# Altium footprint library VioletofSun.PcbLib: 319 footprints (part 17 of 20)
Each footprint in its own frame and in the unit in brackets; x right, y up, seen from the top. Pads: shape width x height; smd on the part's side, far side on the other; paste and mask are expansions set on the pad; w line width, h text height; cw(c..) or ccw(c..) is an arc to the next point about the centre after c.
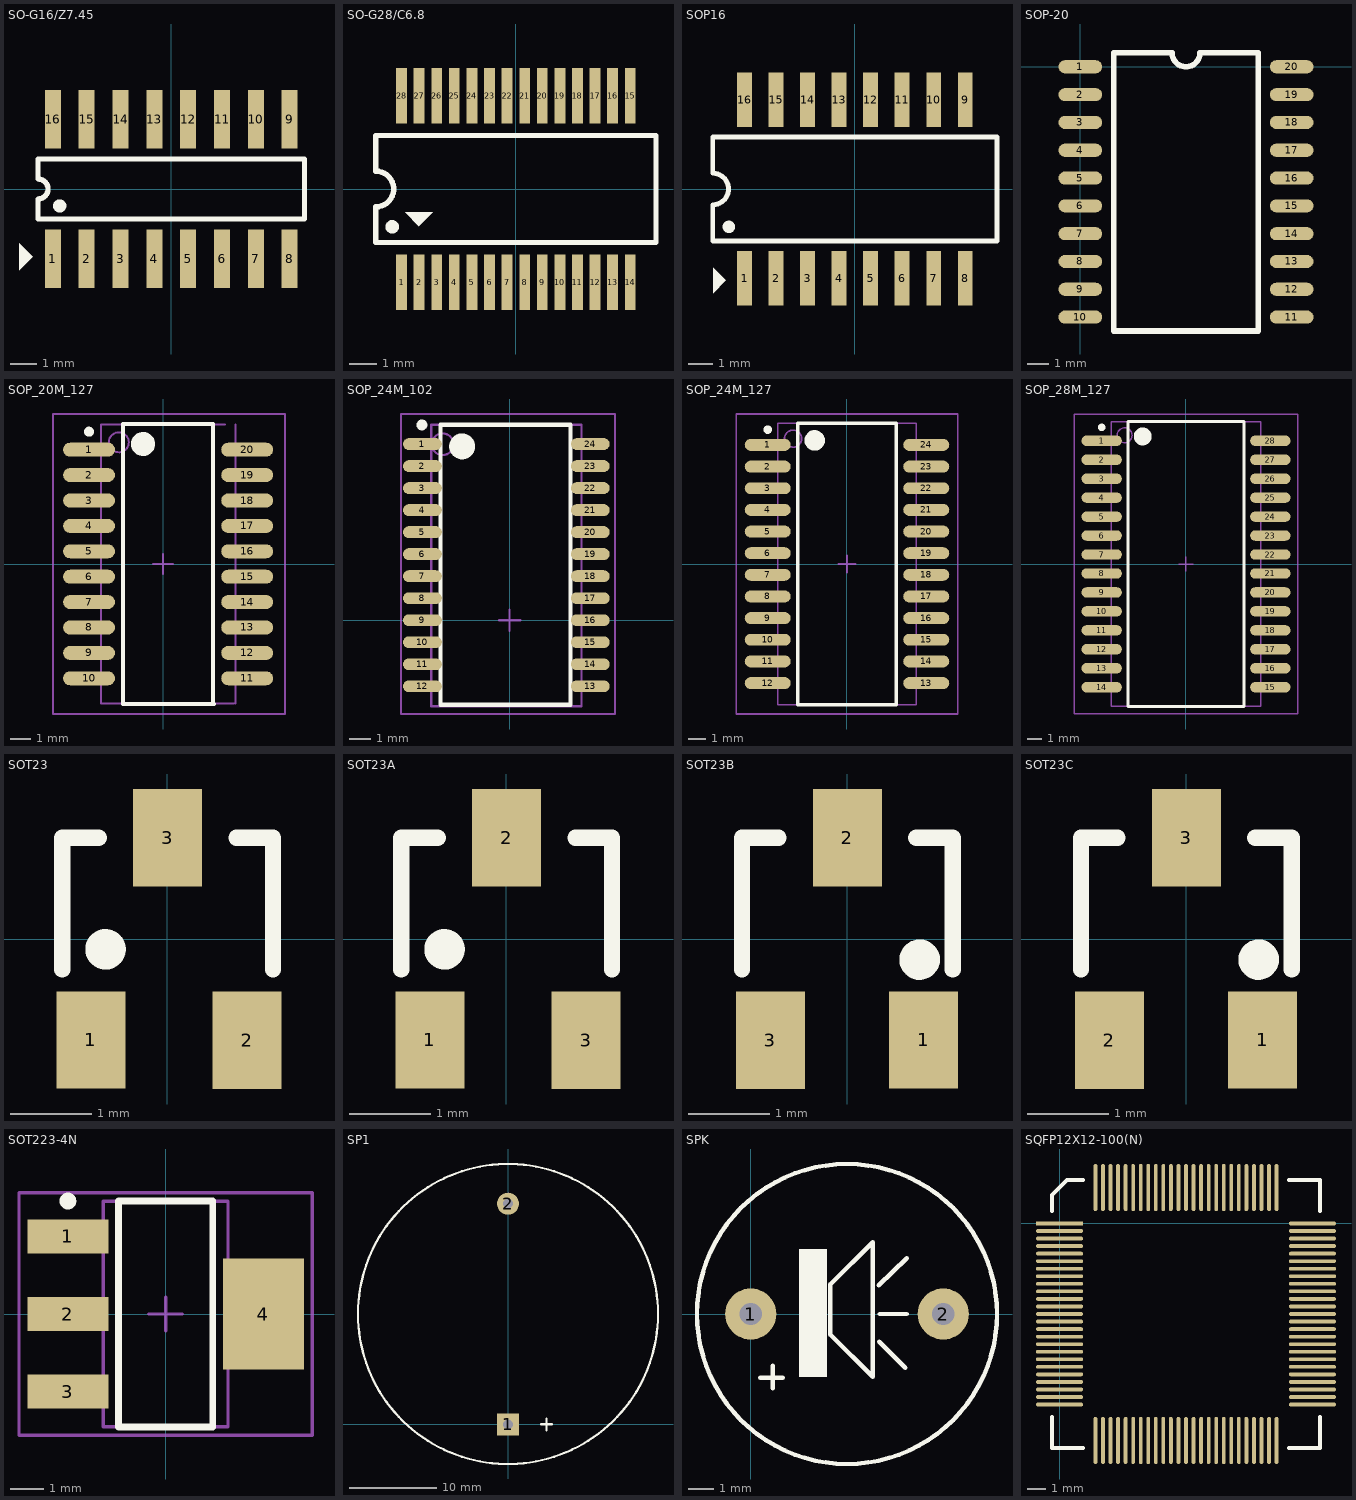
[diagram p16: the footprints below, top view; thin cyan lines are the x and y axes]

## SO-G16/Z7.45 [mm] "Small Outline; 16 Leads; Body Width 3.9 mm; Pitch 1.27 mm"
height 1.75
pads (16):
  rect 0.6x2.2 smd: 1(-4.445,-2.625) 2(-3.175,-2.625) 3(-1.905,-2.625) 4(-0.635,-2.625) 5(0.635,-2.625) 6(1.905,-2.625) 7(3.175,-2.625) 8(4.445,-2.625) 9(4.445,2.625) 10(3.175,2.625) 11(1.905,2.625) 12(0.635,2.625) 13(-0.635,2.625) 14(-1.905,2.625) 15(-3.175,2.625) 16(-4.445,2.625)
Top Overlay:
  circle w0.25: c-4.189,-0.635 r0.125
  region: -5.715,-3.048 -5.207,-2.54 -5.715,-2.032
  lines w0.2: -5,-1.125 -5,-0.375 ccw(c-5,0) -5,0.375 -5,1.125 5,1.125 5,-1.125 -5,-1.125

## SO-G28/C6.8 [mm] "SSOP, Plastic; 28 Leads; Body Width 5.3 mm; Pitch 0.65 mm"
height 1.99
pads (28):
  rect 0.4x2.05 smd: 1(-4.225,-3.451) 2(-3.575,-3.451) 3(-2.925,-3.451) 4(-2.275,-3.451) 5(-1.625,-3.451) 6(-0.975,-3.451) 7(-0.325,-3.451) 8(0.325,-3.451) 9(0.975,-3.451) 10(1.625,-3.451) 11(2.275,-3.451) 12(2.925,-3.451) 13(3.575,-3.451) 14(4.225,-3.451) 15(4.225,3.451) 16(3.575,3.451) 17(2.925,3.451) 18(2.275,3.451) 19(1.625,3.451) 20(0.975,3.451) 21(0.325,3.451) 22(-0.325,3.451) 23(-0.975,3.451) 24(-1.625,3.451) 25(-2.275,3.451) 26(-2.925,3.451) 27(-3.575,3.451) 28(-4.225,3.451)
Top Overlay:
  circle w0.25: c-4.57,-1.397 r0.125
  region: -4.089,-0.864 -3.581,-1.372 -3.073,-0.864
  lines w0.2: -5.175,-1.975 5.175,-1.975 5.175,1.975 -5.175,1.975 -5.175,0.658 cw(c-5.175,0) -5.175,-0.658 -5.175,-1.975
3D body: height 1.14, standoff 1.02, extent -4.809,-1.753 -4.291,-1.235
3D body: height 1.27, standoff 1.02, extent 2.794,-0.335 3.713,1.067
3D body: height 1.27, standoff 1.02, extent 1.516,-0.313 2.548,1.099
3D body: height 1.27, standoff 1.02, extent 0.254,-0.31 1.173,1.092
3D body: height 1.27, standoff 1.02, extent -0.925,-0.305 -0.094,1.101
3D body: height 1.27, standoff 1.02, extent -3.175,-0.305 -2.354,1.101
3D body: height 1.27, standoff 1.02, extent -2.032,-0.305 -1.245,1.092
3D body: height 0.25, standoff 0, extent -3.759,2.032 -3.378,3.429
3D body: height 0.25, standoff 0, extent -4.42,2.032 -4.039,3.429
3D body: height 0.25, standoff 0, extent -3.124,2.007 -2.743,3.404
3D body: height 0.25, standoff 0, extent -2.464,2.007 -2.083,3.404
3D body: height 0.25, standoff 0, extent -1.829,2.007 -1.448,3.404
3D body: height 0.25, standoff 0, extent -1.168,2.007 -0.787,3.404
3D body: height 0.25, standoff 0, extent -0.508,2.007 -0.127,3.404
3D body: height 0.25, standoff 0, extent 0.152,2.007 0.533,3.404
3D body: height 0.25, standoff 0, extent 0.762,2.007 1.143,3.404
3D body: height 0.25, standoff 0, extent 1.422,2.007 1.803,3.404
3D body: height 0.25, standoff 0, extent 2.083,2.007 2.464,3.404
3D body: height 0.25, standoff 0, extent 2.743,2.007 3.124,3.404
3D body: height 0.25, standoff 0, extent 3.378,2.007 3.759,3.404
3D body: height 0.25, standoff 0, extent 4.039,2.007 4.42,3.404
3D body: height 0.25, standoff 0, extent 4.039,-3.454 4.42,-2.057
3D body: height 0.25, standoff 0, extent 3.378,-3.454 3.759,-2.057
3D body: height 0.25, standoff 0, extent 2.743,-3.454 3.124,-2.057
3D body: height 0.25, standoff 0, extent 2.083,-3.454 2.464,-2.057
3D body: height 0.25, standoff 0, extent 1.422,-3.454 1.803,-2.057
3D body: height 0.25, standoff 0, extent 0.762,-3.454 1.143,-2.057
3D body: height 0.25, standoff 0, extent 0.152,-3.454 0.533,-2.057
3D body: height 0.25, standoff 0, extent -0.508,-3.454 -0.127,-2.057
3D body: height 0.25, standoff 0, extent -1.168,-3.454 -0.787,-2.057
3D body: height 0.25, standoff 0, extent -1.829,-3.454 -1.448,-2.057
3D body: height 0.25, standoff 0, extent -2.464,-3.454 -2.083,-2.057
3D body: height 0.25, standoff 0, extent -3.124,-3.454 -2.743,-2.057
3D body: height 1.02, standoff 0.23, extent -5.156,-1.981 5.258,2.083
3D body: height 0.25, standoff 0, extent -4.42,-3.429 -4.039,-2.032
3D body: height 0.25, standoff 0, extent -3.759,-3.429 -3.378,-2.032

## SOP16 [mm] "Small Outline; 16 Leads; Body Width 5.6 mm; Pitch 1.27 mm"
height 2
pads (16):
  rect 0.6x2.2 smd: 1(-4.445,-3.6) 2(-3.175,-3.6) 3(-1.905,-3.6) 4(-0.635,-3.6) 5(0.635,-3.6) 6(1.905,-3.6) 7(3.175,-3.6) 8(4.445,-3.6) 9(4.445,3.6) 10(3.175,3.6) 11(1.905,3.6) 12(0.635,3.6) 13(-0.635,3.6) 14(-1.905,3.6) 15(-3.175,3.6) 16(-4.445,3.6)
Top Overlay:
  circle w0.25: c-5.078,-1.524 r0.125
  region: -5.715,-4.191 -5.207,-3.683 -5.715,-3.175
  lines w0.2: -5.725,-2.1 5.725,-2.1 5.725,2.1 -5.725,2.1 -5.725,0.635 cw(c-5.725,0) -5.725,-0.635 -5.725,-2.1

## SOP-20 [mm]
pads (20):
  oval 2x0.6 smd: 1(0,0) 2(0,-1.27) 3(0,-2.54) 4(0,-3.81) 5(0,-5.08) 6(0,-6.35) 7(0,-7.62) 8(0,-8.89) 9(0,-10.16) 10(0,-11.43) 11(9.652,-11.43) 12(9.652,-10.16) 13(9.652,-8.89) 14(9.652,-7.62) 15(9.652,-6.35) 16(9.652,-5.08) 17(9.652,-3.81) 18(9.652,-2.54) 19(9.652,-1.27) 20(9.652,0)
Top Overlay:
  lines w0.254: 1.524,-12.065 8.128,-12.065 8.128,0.635 5.461,0.635 cw(c4.826,0.635) 4.191,0.635 1.524,0.635 1.524,-12.065

## SOP_20M_127 [mm] "SOP, 20-Leads, Body 13.4x6.2mm, Pitch 1.27mm, IPC Low Density"
height 2
pads (20):
  oval 2.6x0.7 smd: 1(-3.7,5.715) 2(-3.7,4.445) 3(-3.7,3.175) 4(-3.7,1.905) 5(-3.7,0.635) 6(-3.7,-0.635) 7(-3.7,-1.905) 8(-3.7,-3.175) 9(-3.7,-4.445) 10(-3.7,-5.715) 11(4.208,-5.715) 12(4.208,-4.445) 13(4.208,-3.175) 14(4.208,-1.905) 15(4.208,-0.635) 16(4.208,0.635) 17(4.208,1.905) 18(4.208,3.175) 19(4.208,4.445) 20(4.208,5.715)
Top Overlay:
  circle w0.6: c-1,6 r0.3
  circle w0.25: c-3.7,6.615 r0.125
  lines w0.2: 2.413,7 -2,7 -2,-7 2.54,-7 ; 2.508,-7 2.508,7
Mechanical 13:
  circle w0.1: c-2.21,6.085 r0.5
  lines w0.1: 3.11,6.985 -3.11,6.985 -3.11,-6.985 3.556,-6.985 ; 3.618,-6.985 3.618,6.985
Mechanical 15:
  lines w0.1: -0.5,0 0.5,0 ; 0,-0.5 0,0.5 ; -5.5,-7.5 6.096,-7.5 6.096,7.5 -5.5,7.5 -5.5,-7.5
3D body: height 2, standoff 0, extent -3.11,-6.985 3.556,6.985

## SOP_24M_102 [mm] "24-Pin Small Outline Package 1.02 mm Pitch"
height 2.64
pads (24):
  oval 1.8x0.55 smd: 1(-4.039,8.16) 2(-4.039,7.14) 3(-4.039,6.12) 4(-4.039,5.1) 5(-4.039,4.08) 6(-4.039,3.06) 7(-4.039,2.04) 8(-4.039,1.02) 9(-4.039,0) 10(-4.039,-1.02) 11(-4.039,-2.04) 12(-4.039,-3.06) 13(3.734,-3.06) 14(3.734,-2.04) 15(3.734,-1.02) 16(3.734,0) 17(3.734,1.02) 18(3.734,2.04) 19(3.734,3.06) 20(3.734,4.08) 21(3.734,5.1) 22(3.734,6.12) 23(3.734,7.14) 24(3.734,8.16)
Top Overlay:
  circle w0.6: c-2.2,8.05 r0.3
  circle w0.25: c-4.062,9.042 r0.125
  lines w0.2: -3.2,-3.912 2.819,-3.912 2.819,9.05 -3.2,9.05 -3.2,-3.912
Mechanical 13:
  circle w0.1: c-3.1,8.15 r0.5
  lines w0.1: -3.632,-3.988 3.327,-3.988 3.327,9.05 -3.632,9.05 -3.632,-3.988
Mechanical 15:
  lines w0.1: -0.5,0 0.5,0 ; 0,-0.5 0,0.5 ; -5.029,-4.343 4.877,-4.343 4.877,9.55 -5.029,9.55 -5.029,-4.343
3D body: height 2.64, standoff 0, extent -3.632,-3.937 3.353,9.05

## SOP_24M_127 [mm] "SOP, 24-Leads, Body 15.6x8.1mm, Pitch 1.27mm, IPC Low Density"
height 2.5
pads (24):
  oval 2.7x0.7 smd: 1(-4.65,6.985) 2(-4.65,5.715) 3(-4.65,4.445) 4(-4.65,3.175) 5(-4.65,1.905) 6(-4.65,0.635) 7(-4.65,-0.635) 8(-4.65,-1.905) 9(-4.65,-3.175) 10(-4.65,-4.445) 11(-4.65,-5.715) 12(-4.65,-6.985) 13(4.65,-6.985) 14(4.65,-5.715) 15(4.65,-4.445) 16(4.65,-3.175) 17(4.65,-1.905) 18(4.65,-0.635) 19(4.65,0.635) 20(4.65,1.905) 21(4.65,3.175) 22(4.65,4.445) 23(4.65,5.715) 24(4.65,6.985)
Top Overlay:
  circle w0.6: c-1.9,7.25 r0.3
  circle w0.25: c-4.65,7.885 r0.125
  lines w0.2: -2.9,-8.25 2.9,-8.25 2.9,8.25 -2.9,8.25 -2.9,-8.25
Mechanical 13:
  circle w0.1: c-3.165,7.355 r0.5
  lines w0.1: -4.065,-8.255 4.065,-8.255 4.065,8.255 -4.065,8.255 -4.065,-8.255
Mechanical 15:
  lines w0.1: -0.5,0 0.5,0 ; 0,-0.5 0,0.5 ; -6.5,-8.8 6.5,-8.8 6.5,8.8 -6.5,8.8 -6.5,-8.8
3D body: height 2.79, standoff 2.54, extent -0.542,7.18 0.615,7.696
3D body: height 2.79, standoff 0.25, extent -2.654,6.318 -1.778,7.118
3D body: height 2.7, standoff -0.11, extent -4.949,-7.853 5.051,7.747

## SOP_28M_127 [mm] "SOP, 28-Leads, Body 18.1x8.6mm, Pitch 1.27mm, IPC Low Density"
height 3.05
pads (28):
  oval 2.7x0.7 smd: 1(-5.65,8.255) 2(-5.65,6.985) 3(-5.65,5.715) 4(-5.65,4.445) 5(-5.65,3.175) 6(-5.65,1.905) 7(-5.65,0.635) 8(-5.65,-0.635) 9(-5.65,-1.905) 10(-5.65,-3.175) 11(-5.65,-4.445) 12(-5.65,-5.715) 13(-5.65,-6.985) 14(-5.65,-8.255) 15(5.65,-8.255) 16(5.65,-6.985) 17(5.65,-5.715) 18(5.65,-4.445) 19(5.65,-3.175) 20(5.65,-1.905) 21(5.65,-0.635) 22(5.65,0.635) 23(5.65,1.905) 24(5.65,3.175) 25(5.65,4.445) 26(5.65,5.715) 27(5.65,6.985) 28(5.65,8.255)
Top Overlay:
  circle w0.6: c-2.9,8.55 r0.3
  circle w0.25: c-5.65,9.155 r0.125
  lines w0.2: -3.9,-9.55 3.9,-9.55 3.9,9.55 -3.9,9.55 -3.9,-9.55
Mechanical 13:
  circle w0.1: c-4.115,8.625 r0.5
  lines w0.1: -5.015,-9.525 5.015,-9.525 5.015,9.525 -5.015,9.525 -5.015,-9.525
Mechanical 15:
  lines w0.1: -0.5,0 0.5,0 ; 0,-0.5 0,0.5 ; -7.5,-10.05 7.5,-10.05 7.5,10.05 -7.5,10.05 -7.5,-10.05
3D body: height 2.64, standoff 0, extent -5.336,-9.04 5.334,9.04

## SOT23 [mm] "SOT 23 _ 1-3-2"
height 1.27
pads (3):
  rect 0.85x1.2 smd: 1(-0.94,-1.245) 2(0.985,-1.25) 3(0.005,1.25)
Top Overlay:
  circle w0.25: c-0.76,-0.127 r0.125
  lines w0.2: -1.295,-0.375 -1.295,1.25 -0.845,1.25 ; 0.855,1.25 1.305,1.25 1.305,-0.375
3D body: height 1.27, standoff 0, extent 0.855,-0.376 1.306,1.251
3D body: height 1.27, standoff 0, extent -0.879,-0.505 -0.63,-0.257
3D body: height 1.27, standoff 0, extent -1.295,-0.376 -0.844,1.251
3D body: height 1.27, standoff 0, extent -1.499,-0.686 1.524,0.711

## SOT23A [mm] "SOT 23A"
height 1.27
pads (3):
  rect 0.85x1.2 smd: 1(-0.94,-1.245) 2(0.005,1.25) 3(0.985,-1.25)
Top Overlay:
  circle w0.25: c-0.76,-0.127 r0.125
  lines w0.2: -1.295,-0.375 -1.295,1.25 -0.845,1.25 ; 0.855,1.25 1.305,1.25 1.305,-0.375
3D body: height 1.27, standoff 0, extent -1.499,-0.686 1.524,0.711
3D body: height 1.27, standoff 0, extent -1.295,-0.376 -0.844,1.251
3D body: height 1.27, standoff 0, extent -0.879,-0.505 -0.63,-0.257
3D body: height 1.27, standoff 0, extent 0.855,-0.376 1.306,1.251

## SOT23B [mm] "SOT 23B"
height 1.27
pads (3):
  rect 0.85x1.2 smd: 1(0.94,-1.245) 2(0,1.25) 3(-0.95,-1.25)
Top Overlay:
  circle w0.25: c0.891,-0.254 r0.125
  lines w0.2: -1.3,-0.375 -1.3,1.25 -0.85,1.25 ; 0.85,1.25 1.3,1.25 1.3,-0.375
3D body: height 1.27, standoff 0, extent 0.849,-0.376 1.301,1.251
3D body: height 1.27, standoff 0, extent -1.301,-0.376 -0.849,1.251
3D body: height 1.27, standoff 0, extent 0.849,-0.376 1.301,1.251
3D body: height 1.27, standoff 0, extent -1.301,-0.376 -0.849,1.251

## SOT23C [mm] "SOT 23C - 2-3-1 - BCE"
height 1.27
pads (3):
  rect 0.85x1.2 smd: 1(0.94,-1.245) 2(-0.95,-1.25) 3(0,1.25)
Top Overlay:
  circle w0.25: c0.891,-0.254 r0.125
  lines w0.2: -1.3,-0.375 -1.3,1.25 -0.85,1.25 ; 0.85,1.25 1.3,1.25 1.3,-0.375
3D body: height 1.27, standoff 0, extent -1.301,-0.376 -0.849,1.251
3D body: height 1.27, standoff 0, extent 0.849,-0.376 1.301,1.251
3D body: height 1.27, standoff 0, extent -1.301,-0.376 -0.849,1.251
3D body: height 1.27, standoff 0, extent 0.849,-0.376 1.301,1.251

## SOT223-4N [mm] "SOT223, 4-Leads, Body 6.5x3.5mm, Pitch 2.3mm, Lead Span 7mm, IPC Medium Density"
height 1.8
pads (4):
  rect 2.4x1 smd: 1(-2.9,2.3) 2(-2.9,0) 3(-2.9,-2.3)
  rect 2.4x3.3 smd: 4(2.9,0)
Top Overlay:
  circle w0.25: c-2.9,3.35 r0.125
  lines w0.2: -1.4,-3.35 -1.4,3.35 1.4,3.35 1.4,-3.35 -1.4,-3.35
Mechanical 13:
  lines w0.1: -1.85,-3.35 -1.85,3.35 1.85,3.35 1.85,-3.35 -1.85,-3.35
Mechanical 15:
  lines w0.1: -0.5,0 0.5,0 ; 0,-0.5 0,0.5 ; -4.35,-3.6 -4.35,3.6 4.35,3.6 4.35,-3.6 -4.35,-3.6
3D body: height 1.8, standoff 0, extent -1.85,-3.35 1.85,3.35

## SP1 [mil] "Speaker Telphone on Broad"
height 3
pads (2):
  rect 100x100 hole 45: 1(0,0)
  round 100 hole 45: 2(0,1000)
Top Overlay:
  circle w10: c0,500 r680
  lines w10: 150,0 200,0 ; 174,-28 174,26

## SPK [mil] "Speaker Chip"
height 500
pads (2):
  round 80 hole 35: 1(0,0) 2(300,0)
Top Overlay:
  circle w7: c150,0 r233.73
  rectangle: 75,-98 119,101
  lines w7: 15,-99 50,-99 ; 34,-116 34,-81 ; 199.52,44.52 243,87 ; 200,-43 241,-84 ; 201,0 243,0 ; 124,-32 190,-98 190,112 124,46 124,-32

## SQFP12X12-100(N) [mm]
pads (100):
  rect 2.5x0.2 smd: 1(0,0)
  oval 2.5x0.2 smd: 2(0,-0.4) 3(0,-0.8) 4(0,-1.2) 5(0,-1.6) 6(0,-2) 7(0,-2.4) 8(0,-2.8) 9(0,-3.2) 10(0,-3.6) 11(0,-4) 12(0,-4.4) 13(0,-4.8) 14(0,-5.2) 15(0,-5.6) 16(0,-6) 17(0,-6.4) 18(0,-6.8) 19(0,-7.2) 20(0,-7.6) 21(0,-8) 22(0,-8.4) 23(0,-8.8) 24(0,-9.2) 25(0,-9.6) 51(13.4,-9.6) 52(13.4,-9.2) 53(13.4,-8.8) 54(13.4,-8.4) 55(13.4,-8) 56(13.4,-7.6) 57(13.4,-7.2) 58(13.4,-6.8) 59(13.4,-6.4) 60(13.4,-6) 61(13.4,-5.6) 62(13.4,-5.2) 63(13.4,-4.8) 64(13.4,-4.4) 65(13.4,-4) 66(13.4,-3.6) 67(13.4,-3.2) 68(13.4,-2.8) 69(13.4,-2.4) 70(13.4,-2) 71(13.4,-1.6) 72(13.4,-1.2) 73(13.4,-0.8) 74(13.4,-0.4) 75(13.4,0)
  oval 0.2x2.5 smd: 26(1.9,-11.5) 27(2.3,-11.5) 28(2.7,-11.5) 29(3.1,-11.5) 30(3.5,-11.5) 31(3.9,-11.5) 32(4.3,-11.5) 33(4.7,-11.5) 34(5.1,-11.5) 35(5.5,-11.5) 36(5.9,-11.5) 37(6.3,-11.5) 38(6.7,-11.5) 39(7.1,-11.5) 40(7.5,-11.5) 41(7.9,-11.5) 42(8.3,-11.5) 43(8.7,-11.5) 44(9.1,-11.5) 45(9.5,-11.5) 46(9.9,-11.5) 47(10.3,-11.5) 48(10.7,-11.5) 49(11.1,-11.5) 50(11.5,-11.5) 76(11.5,1.9) 77(11.1,1.9) 78(10.7,1.9) 79(10.3,1.9) 80(9.9,1.9) 81(9.5,1.9) 82(9.1,1.9) 83(8.7,1.9) 84(8.3,1.9) 85(7.9,1.9) 86(7.5,1.9) 87(7.1,1.9) 88(6.7,1.9) 89(6.3,1.9) 90(5.9,1.9) 91(5.5,1.9) 92(5.1,1.9) 93(4.7,1.9) 94(4.3,1.9) 95(3.9,1.9) 96(3.5,1.9) 97(3.1,1.9) 98(2.7,1.9) 99(2.3,1.9) 100(1.9,1.9)
Top Overlay:
  lines w0.2: -0.4,-10.25 -0.4,-11.9 1.25,-11.9 ; -0.4,0.65 -0.4,1.5 0.4,2.3 1.25,2.3 ; 12.15,-11.9 13.8,-11.9 13.8,-10.25 ; 12.15,2.3 13.8,2.3 13.8,0.65